# EAGLE library part 7461057 (library 7461057)
PCB power element bush terminal, 6P, M3 Source: Datasheet <https://katalog.we-online.com/em/datasheet/7461057.pdf>
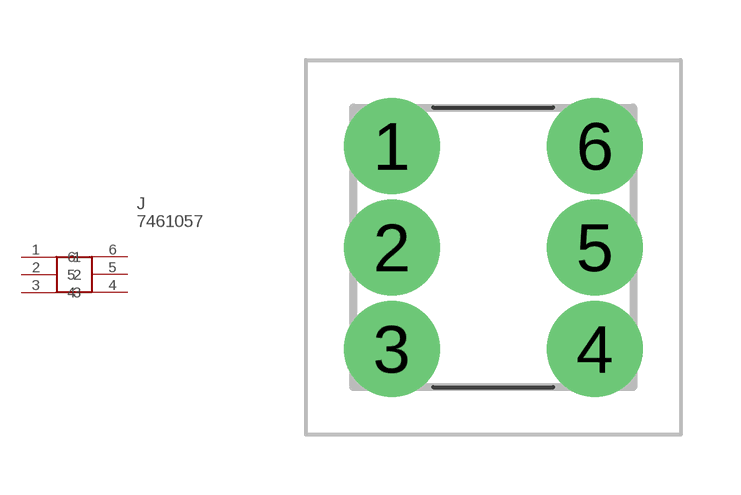
[diagram p0: symbol with the pads of 7461057; footprint 7461057]

Designator prefix J

## 7461057 (DESCRIPTION: PCB power element bush terminal, 6P, M3; HEIGHT: 6.2mm; MANUFACTURER_NAME: Wurth Elektronik; MANUFACTURER_PART_NUMBER: 7461057; MOUSER_PART_NUMBER: 710-7461057; MOUSER_PRICE-STOCK: https://www.mouser.co.uk/ProductDetail/Wurth-Elektronik/7461057?qs=lykWx4dhCCH1DoqS0WFLUA%3D%3D)  [7461057]
1  1
2  2
3  3
4  4
5  5
6  6

## Footprint 7461057 (pad centres in mm)
7461057-2
drill 1.6 pad 2.3: 1 0,0; 2 0,-2.54; 3 0,-5.08; 4 5.08,-5.08; 5 5.08,-2.54; 6 5.08,0